# Altium footprint library Batteries.PcbLib: 6 footprints
Each footprint in its own frame and in the unit in brackets; x right, y up, seen from the top. Pads: shape width x height; smd on the part's side, far side on the other; paste and mask are expansions set on the pad; w line width, h text height; cw(c..) or ccw(c..) is an arc to the next point about the centre after c.
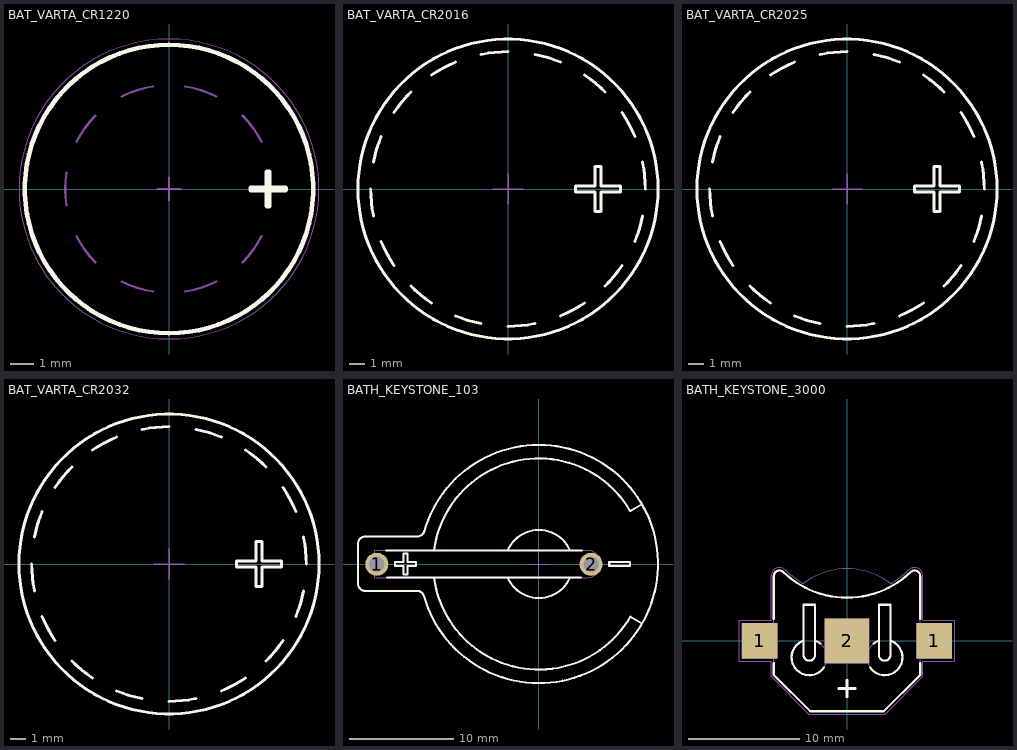
[diagram p0: the footprints below, top view; thin cyan lines are the x and y axes]

## BAT_VARTA_CR1220 [mm] "CR1210, 12.5mm Diameter x 2mm  Height Lithium Coin Cells"
height 2
Top Overlay:
  lines w0.2: 0,-6.25 cw(c0,0) 0,6.25 cw(c0,0) 0,-6.25 ; 3.547,-0.05 3.547,0.05 4.247,0.05 4.247,0.75 4.347,0.75 4.347,0.05 5.047,0.05 5.047,-0.05 4.347,-0.05 4.347,-0.75 4.247,-0.75 4.247,-0.05 3.547,-0.05
Mechanical 8:
  lines w0.1: -0.5,0 0,0 ; 0,-0.5 0,0 ; 0,0.5 0,0 ; 0.5,0 0,0
Mechanical 14:
  circle w0.1: c0,0 r6.25
  lines w0.1: -4.445,-0.704 cw(c0,0) -4.445,0.704 ; -4.01,-2.043 ccw(c0,0) -3.182,-3.182 ; -4.01,2.043 cw(c0,0) -3.182,3.182 ; -2.043,-4.01 ccw(c0,0) -0.704,-4.445 ; -2.043,4.01 cw(c0,0) -0.704,4.445 ; 0.704,-4.445 ccw(c0,0) 2.043,-4.01 ; 0.704,4.445 cw(c0,0) 2.043,4.01 ; 3.182,-3.182 ccw(c0,0) 4.01,-2.043 ; 3.182,3.182 cw(c0,0) 4.01,2.043
Mechanical 15:
  circle w0.05: c0,0 r6.5
3D body: height 2, standoff 0, extent -6.25,-6.25 6.25,6.25

## BAT_VARTA_CR2016 [mm] "CR2016, 20mm Diameter x 1.6mm  Height Lithium Coin Cells"
height 1.6
Top Overlay:
  circle w0.2: c0,0 r10
  lines w0.2: -9.15,0 ccw(c0,0) -8.974,-1.785 ; -8.974,1.785 cw(c0,0) -8.454,3.502 ; -8.454,-3.502 ccw(c0,0) -7.608,-5.083 ; -7.608,5.083 cw(c0,0) -6.47,6.47 ; -6.47,-6.47 ccw(c0,0) -5.083,-7.608 ; -5.083,7.608 cw(c0,0) -3.502,8.454 ; -3.502,-8.454 ccw(c0,0) -1.785,-8.974 ; -1.785,8.974 cw(c0,0) 0,9.15 ; 0,-9.15 ccw(c0,0) 1.785,-8.974 ; 1.785,8.974 cw(c0,0) 3.502,8.454 ; 3.502,-8.454 ccw(c0,0) 5.083,-7.608 ; 5.083,7.608 cw(c0,0) 6.47,6.47 ; 6.47,-6.47 ccw(c0,0) 7.608,-5.083 ; 7.608,5.083 cw(c0,0) 8.454,3.502 ; 8.454,-3.502 ccw(c0,0) 8.974,-1.785 ; 8.974,1.785 cw(c0,0) 9.15,0 ; 4.5,-0.2 5.813,-0.2 5.813,-1.5 6.213,-1.5 6.213,-0.2 7.5,-0.2 7.5,0.2 6.213,0.2 6.213,1.5 5.813,1.5 5.813,0.2 4.5,0.2 4.5,-0.2
Mechanical 8:
  lines w0.1: -1,0 0,0 ; 0,-1 0,0 ; 0,1 0,0 ; 1,0 0,0
Mechanical 13:
  circle w0.1: c0,0 r10
Mechanical 14:
  lines w0.1: -9.15,0 ccw(c0,0) -8.974,-1.785 ; -8.974,1.785 cw(c0,0) -8.454,3.502 ; -8.454,-3.502 ccw(c0,0) -7.608,-5.083 ; -7.608,5.083 cw(c0,0) -6.47,6.47 ; -6.47,-6.47 ccw(c0,0) -5.083,-7.608 ; -5.083,7.608 cw(c0,0) -3.502,8.454 ; -3.502,-8.454 ccw(c0,0) -1.785,-8.974 ; -1.785,8.974 cw(c0,0) 0,9.15 ; 0,-9.15 ccw(c0,0) 1.785,-8.974 ; 1.785,8.974 cw(c0,0) 3.502,8.454 ; 3.502,-8.454 ccw(c0,0) 5.083,-7.608 ; 5.083,7.608 cw(c0,0) 6.47,6.47 ; 6.47,-6.47 ccw(c0,0) 7.608,-5.083 ; 7.608,5.083 cw(c0,0) 8.454,3.502 ; 8.454,-3.502 ccw(c0,0) 8.974,-1.785 ; 8.974,1.785 cw(c0,0) 9.15,0 ; 4.5,-0.2 5.813,-0.2 5.813,-1.5 6.213,-1.5 6.213,-0.2 7.5,-0.2 7.5,0.2 6.213,0.2 6.213,1.5 5.813,1.5 5.813,0.2 4.5,0.2 4.5,-0.2
3D body: height 1.6, standoff -0.1, extent -10,-10 10,10

## BAT_VARTA_CR2025 [mm] "CR2025, 20mm Diameter x 2.5mm  Height Lithium Coin Cells"
height 2.5
Top Overlay:
  circle w0.2: c0,0 r10
  lines w0.2: -9.15,0 ccw(c0,0) -8.974,-1.785 ; -8.974,1.785 cw(c0,0) -8.454,3.502 ; -8.454,-3.502 ccw(c0,0) -7.608,-5.083 ; -7.608,5.083 cw(c0,0) -6.47,6.47 ; -6.47,-6.47 ccw(c0,0) -5.083,-7.608 ; -5.083,7.608 cw(c0,0) -3.502,8.454 ; -3.502,-8.454 ccw(c0,0) -1.785,-8.974 ; -1.785,8.974 cw(c0,0) 0,9.15 ; 0,-9.15 ccw(c0,0) 1.785,-8.974 ; 1.785,8.974 cw(c0,0) 3.502,8.454 ; 3.502,-8.454 ccw(c0,0) 5.083,-7.608 ; 5.083,7.608 cw(c0,0) 6.47,6.47 ; 6.47,-6.47 ccw(c0,0) 7.608,-5.083 ; 7.608,5.083 cw(c0,0) 8.454,3.502 ; 8.454,-3.502 ccw(c0,0) 8.974,-1.785 ; 8.974,1.785 cw(c0,0) 9.15,0 ; 4.5,-0.2 5.813,-0.2 5.813,-1.5 6.213,-1.5 6.213,-0.2 7.5,-0.2 7.5,0.2 6.213,0.2 6.213,1.5 5.813,1.5 5.813,0.2 4.5,0.2 4.5,-0.2
Mechanical 8:
  lines w0.1: -1,0 0,0 ; 0,-1 0,0 ; 0,1 0,0 ; 1,0 0,0
Mechanical 13:
  circle w0.1: c0,0 r10
Mechanical 14:
  lines w0.1: -9.15,0 ccw(c0,0) -8.974,-1.785 ; -8.974,1.785 cw(c0,0) -8.454,3.502 ; -8.454,-3.502 ccw(c0,0) -7.608,-5.083 ; -7.608,5.083 cw(c0,0) -6.47,6.47 ; -6.47,-6.47 ccw(c0,0) -5.083,-7.608 ; -5.083,7.608 cw(c0,0) -3.502,8.454 ; -3.502,-8.454 ccw(c0,0) -1.785,-8.974 ; -1.785,8.974 cw(c0,0) 0,9.15 ; 0,-9.15 ccw(c0,0) 1.785,-8.974 ; 1.785,8.974 cw(c0,0) 3.502,8.454 ; 3.502,-8.454 ccw(c0,0) 5.083,-7.608 ; 5.083,7.608 cw(c0,0) 6.47,6.47 ; 6.47,-6.47 ccw(c0,0) 7.608,-5.083 ; 7.608,5.083 cw(c0,0) 8.454,3.502 ; 8.454,-3.502 ccw(c0,0) 8.974,-1.785 ; 8.974,1.785 cw(c0,0) 9.15,0 ; 4.5,-0.2 5.813,-0.2 5.813,-1.5 6.213,-1.5 6.213,-0.2 7.5,-0.2 7.5,0.2 6.213,0.2 6.213,1.5 5.813,1.5 5.813,0.2 4.5,0.2 4.5,-0.2
3D body: height 2.5, standoff 0, extent -10,-10 10,10

## BAT_VARTA_CR2032 [mm] "CR2032, 20mm Diameter x 32mm  Height Lithium Coin Cells"
height 3.2
Top Overlay:
  circle w0.2: c0,0 r10
  lines w0.2: -9.15,0 ccw(c0,0) -8.974,-1.785 ; -8.974,1.785 cw(c0,0) -8.454,3.502 ; -8.454,-3.502 ccw(c0,0) -7.608,-5.083 ; -7.608,5.083 cw(c0,0) -6.47,6.47 ; -6.47,-6.47 ccw(c0,0) -5.083,-7.608 ; -5.083,7.608 cw(c0,0) -3.502,8.454 ; -3.502,-8.454 ccw(c0,0) -1.785,-8.974 ; -1.785,8.974 cw(c0,0) 0,9.15 ; 0,-9.15 ccw(c0,0) 1.785,-8.974 ; 1.785,8.974 cw(c0,0) 3.502,8.454 ; 3.502,-8.454 ccw(c0,0) 5.083,-7.608 ; 5.083,7.608 cw(c0,0) 6.47,6.47 ; 6.47,-6.47 ccw(c0,0) 7.608,-5.083 ; 7.608,5.083 cw(c0,0) 8.454,3.502 ; 8.454,-3.502 ccw(c0,0) 8.974,-1.785 ; 8.974,1.785 cw(c0,0) 9.15,0 ; 4.5,-0.2 5.813,-0.2 5.813,-1.5 6.213,-1.5 6.213,-0.2 7.5,-0.2 7.5,0.2 6.213,0.2 6.213,1.5 5.813,1.5 5.813,0.2 4.5,0.2 4.5,-0.2
Mechanical 8:
  lines w0.1: -1,0 0,0 ; 0,-1 0,0 ; 0,1 0,0 ; 1,0 0,0
Mechanical 13:
  circle w0.1: c0,0 r10
Mechanical 14:
  lines w0.1: -9.15,0 ccw(c0,0) -8.974,-1.785 ; -8.974,1.785 cw(c0,0) -8.454,3.502 ; -8.454,-3.502 ccw(c0,0) -7.608,-5.083 ; -7.608,5.083 cw(c0,0) -6.47,6.47 ; -6.47,-6.47 ccw(c0,0) -5.083,-7.608 ; -5.083,7.608 cw(c0,0) -3.502,8.454 ; -3.502,-8.454 ccw(c0,0) -1.785,-8.974 ; -1.785,8.974 cw(c0,0) 0,9.15 ; 0,-9.15 ccw(c0,0) 1.785,-8.974 ; 1.785,8.974 cw(c0,0) 3.502,8.454 ; 3.502,-8.454 ccw(c0,0) 5.083,-7.608 ; 5.083,7.608 cw(c0,0) 6.47,6.47 ; 6.47,-6.47 ccw(c0,0) 7.608,-5.083 ; 7.608,5.083 cw(c0,0) 8.454,3.502 ; 8.454,-3.502 ccw(c0,0) 8.974,-1.785 ; 8.974,1.785 cw(c0,0) 9.15,0 ; 4.5,-0.2 5.813,-0.2 5.813,-1.5 6.213,-1.5 6.213,-0.2 7.5,-0.2 7.5,0.2 6.213,0.2 6.213,1.5 5.813,1.5 5.813,0.2 4.5,0.2 4.5,-0.2
3D body: height 3.2, standoff 0, extent -10,-10 10,10

## BATH_KEYSTONE_103 [mm] "Battery Holders for 20mm Lithium Coin Cells"
height 8.5
pads (2):
  round 2.2 hole 1.5: 1(-15.5,-0.031) 2(5,-0.031)
Top Overlay:
  lines w0.2: -14.615,1.302 4.115,1.302 ; -14.528,-1.302 4.028,-1.302 ; -10.016,-1.302 ccw(c0,0) 8.751,-5.043 9.877,-5.692 ; -10.016,1.302 cw(c0,0) 8.738,5.065 9.863,5.717 ; -2.985,-1.302 ccw(c0,0) 2.985,-1.302 ; -2.985,1.302 cw(c0,0) 2.985,1.302 ; -11.763,-0.2 -11.763,0.2 ; -11.763,-0.2 -12.563,-0.2 -12.563,-1 -12.963,-1 -12.963,-0.2 -13.763,-0.2 -13.763,0.2 -12.963,0.2 -12.963,1 -12.563,1 -12.563,0.2 -11.763,0.2 ; -11.763,-0.2 -11.763,0.2 ; 8.737,-0.2 8.737,0.2 ; 8.737,-0.2 6.737,-0.2 6.737,0.2 8.737,0.2 ; 8.737,-0.2 8.737,0.2 ; -17.3,-1.872 ccw(c-16.6,-1.872) -16.6,-2.572 -11.649,-2.572 cw(c-11.649,-3.272) -10.975,-3.083 ccw(c0,0) -10.958,3.143 cw(c-11.631,3.336) -11.631,2.636 -16.6,2.636 ccw(c-16.6,1.936) -17.3,1.936 -17.3,-1.872
Mechanical 8:
  lines w0.1: -16.5,-0.031 -15.5,-0.031 ; -15.5,-1.031 -15.5,-0.031 ; -15.5,0.969 -15.5,-0.031 ; -14.5,-0.031 -15.5,-0.031 ; -1,0 0,0 ; 0,-1 0,0 ; 0,1 0,0 ; 1,0 0,0 ; 4,-0.031 5,-0.031 ; 5,-1.031 5,-0.031 ; 5,0.969 5,-0.031 ; 6,-0.031 5,-0.031
Mechanical 14:
  lines w0.1: -10.016,-1.302 ccw(c0,0) 8.751,-5.043 9.877,-5.692 ; -10.016,1.302 cw(c0,0) 8.738,5.065 9.863,5.717 ; -2.985,-1.302 ccw(c0,0) 2.985,-1.302 ; -2.985,1.302 cw(c0,0) 2.985,1.302 ; -11.763,-0.2 -11.763,0.2 ; -11.763,-0.2 -12.563,-0.2 -12.563,-1 -12.963,-1 -12.963,-0.2 -13.763,-0.2 -13.763,0.2 -12.963,0.2 -12.963,1 -12.563,1 -12.563,0.2 -11.763,0.2 ; -11.763,-0.2 -11.763,0.2 ; 8.737,-0.2 8.737,0.2 ; 8.737,-0.2 6.737,-0.2 6.737,0.2 8.737,0.2 ; 8.737,-0.2 8.737,0.2 ; -17.3,-1.872 ccw(c-16.6,-1.872) -16.6,-2.572 -11.649,-2.572 cw(c-11.649,-3.272) -10.975,-3.083 ccw(c0,0) -10.958,3.143 cw(c-11.631,3.336) -11.631,2.636 -16.6,2.636 ccw(c-16.6,1.936) -17.3,1.936 -17.3,-1.872 ; -15.7,-1.302 -15.7,1.302 4.636,1.302 cw(c4.636,0) 4.636,-1.302 -15.7,-1.302
3D body: height 8.5, standoff -4.8, extent -17.3,-11.391 11.4,11.388

## BATH_KEYSTONE_3000 [mm] "SMD Battery Holders for BR1216, CR1216, BR1220, CL1220, CR1220, BR1225 Coin Cells"
height 3.175
pads (3):
  rect 3.175x3.175 smd: 1(-7.873,0) 1(7.873,0)
  rect 4x4 smd: 2(0,0)
Top Overlay:
  lines w0.2: -6.6,-1.988 -6.6,-3.075 -3.325,-6.35 3.325,-6.35 6.6,-3.075 6.6,-1.988 ; -6.6,1.988 -6.6,5.85 cw(c-6.098,5.848) -5.75,6.21 ccw(c0,12.175) 5.75,6.21 cw(c6.099,5.849) 6.6,5.85 6.6,1.988 ; -3.921,-1.335 -3.921,3.255 ; -3.921,-1.335 ccw(c-3.4,-1.263) -2.879,-1.335 -2.879,3.255 ; -2.077,-2.4 cw(c-3.4,-1.5) -3.921,0.013 -3.921,3.255 ; 3.921,-1.335 cw(c3.4,-1.263) 2.879,-1.335 2.879,3.255 ; 3.921,-1.335 3.921,3.255 2.879,3.255 ; -3.921,3.255 -2.879,3.255 ; -3.921,3.255 -2.879,3.255 ; -2.879,0.013 cw(c-3.4,-1.5) -2.4,-0.251 ccw(c-3.4,-1.5) -2.879,0.013 ; -2.879,0.013 -2.879,3.255 ; 2.879,0.013 ccw(c3.4,-1.5) 2.4,-0.251 cw(c3.4,-1.5) 2.879,0.013 ; 2.879,0.013 2.879,3.255 ; 2.879,3.255 3.921,3.255 3.921,0.013 ; 3.921,0.013 cw(c3.4,-1.5) 2.077,-2.4 ccw(c3.4,-1.5) 3.921,0.013 ; -0.75,-4.322 -0.75,-4.272 -0.025,-4.272 -0.025,-3.547 0.025,-3.547 0.025,-4.272 0.75,-4.272 0.75,-4.322 0.025,-4.322 0.025,-5.047 -0.025,-5.047 -0.025,-4.322 -0.75,-4.322
Mechanical 8:
  lines w0.1: -8.373,0 -7.873,0 ; -7.873,-0.5 -7.873,0 ; -7.873,0.5 -7.873,0 ; -7.373,0 -7.873,0 ; -0.5,0 0,0 ; 0,-0.5 0,0 ; 0,0.5 0,0 ; 0.5,0 0,0 ; 7.373,0 7.873,0 ; 7.873,-0.5 7.873,0 ; 7.873,0.5 7.873,0 ; 8.373,0 7.873,0 ; -9.46,-1.587 -6.285,-1.587 -6.285,1.587 -9.46,1.587 -9.46,-1.587 ; -2,-2 2,-2 2,2 -2,2 -2,-2 ; 6.285,-1.587 9.46,-1.587 9.46,1.587 6.285,1.587 6.285,-1.587
Mechanical 14:
  circle w0.1: c-8.03,-0.001 r0.6
  circle w0.1: c8.03,-0.001 r0.6
  lines w0.1: -6.6,-1.59 -9.46,-1.59 -9.46,1.59 -6.6,1.59 ; -3.921,-1.335 -3.921,3.255 ; -3.921,-1.335 ccw(c-3.4,-1.263) -2.879,-1.335 -2.879,3.255 ; 3.921,-1.335 cw(c3.4,-1.263) 2.879,-1.335 2.879,3.255 ; 3.921,-1.335 3.921,3.255 2.879,3.255 ; 6.6,-1.59 9.46,-1.59 9.46,1.59 6.6,1.59 ; -3.921,0.013 ccw(c-3.4,-1.5) -2.879,0.013 ; -3.921,0.013 ccw(c-3.4,-1.5) -2.879,0.013 ; -3.921,0.013 -3.921,3.255 ; -3.921,3.255 -2.879,3.255 ; -3.921,3.255 -2.879,3.255 ; -2.879,0.013 -2.879,3.255 ; 2.879,0.013 ccw(c3.4,-1.5) 3.921,0.013 ; 2.879,0.013 ccw(c3.4,-1.5) 3.921,0.013 ; 2.879,0.013 2.879,3.255 ; 2.879,3.255 3.921,3.255 3.921,0.013 ; -6.6,-3.075 -3.325,-6.35 3.325,-6.35 6.6,-3.075 6.6,5.85 ccw(c6.099,5.849) 5.75,6.21 cw(c0,12.175) -5.75,6.21 ccw(c-6.098,5.848) -6.6,5.85 -6.6,-3.075 ; -0.75,-4.322 -0.75,-4.272 -0.025,-4.272 -0.025,-3.547 0.025,-3.547 0.025,-4.272 0.75,-4.272 0.75,-4.322 0.025,-4.322 0.025,-5.047 -0.025,-5.047 -0.025,-4.322 -0.75,-4.322
Mechanical 15:
  lines w0.05: -6.85,5.85 -6.85,1.84 -9.71,1.84 -9.71,-1.84 -6.85,-1.84 -6.85,-3.179 -3.429,-6.6 3.429,-6.6 6.85,-3.179 6.85,-1.84 9.71,-1.84 9.71,1.84 6.85,1.84 6.85,5.85 ; -6.85,5.851 cw(c-6.098,5.848) -5.577,6.39 ; -5.577,6.39 ccw(c0,12.175) -3.938,5.171 cw(c0,0) 3.938,5.171 ccw(c0,12.175) 5.577,6.39 cw(c6.099,5.849) 6.85,5.85
3D body: height 3.17, standoff 0, extent -9.46,-6.35 9.46,6.351